# Altium schematic symbol library Soldeerbout.SCHLIB: 27 symbols
Pins are listed as number, name and electrical type; pins without a type are passive.

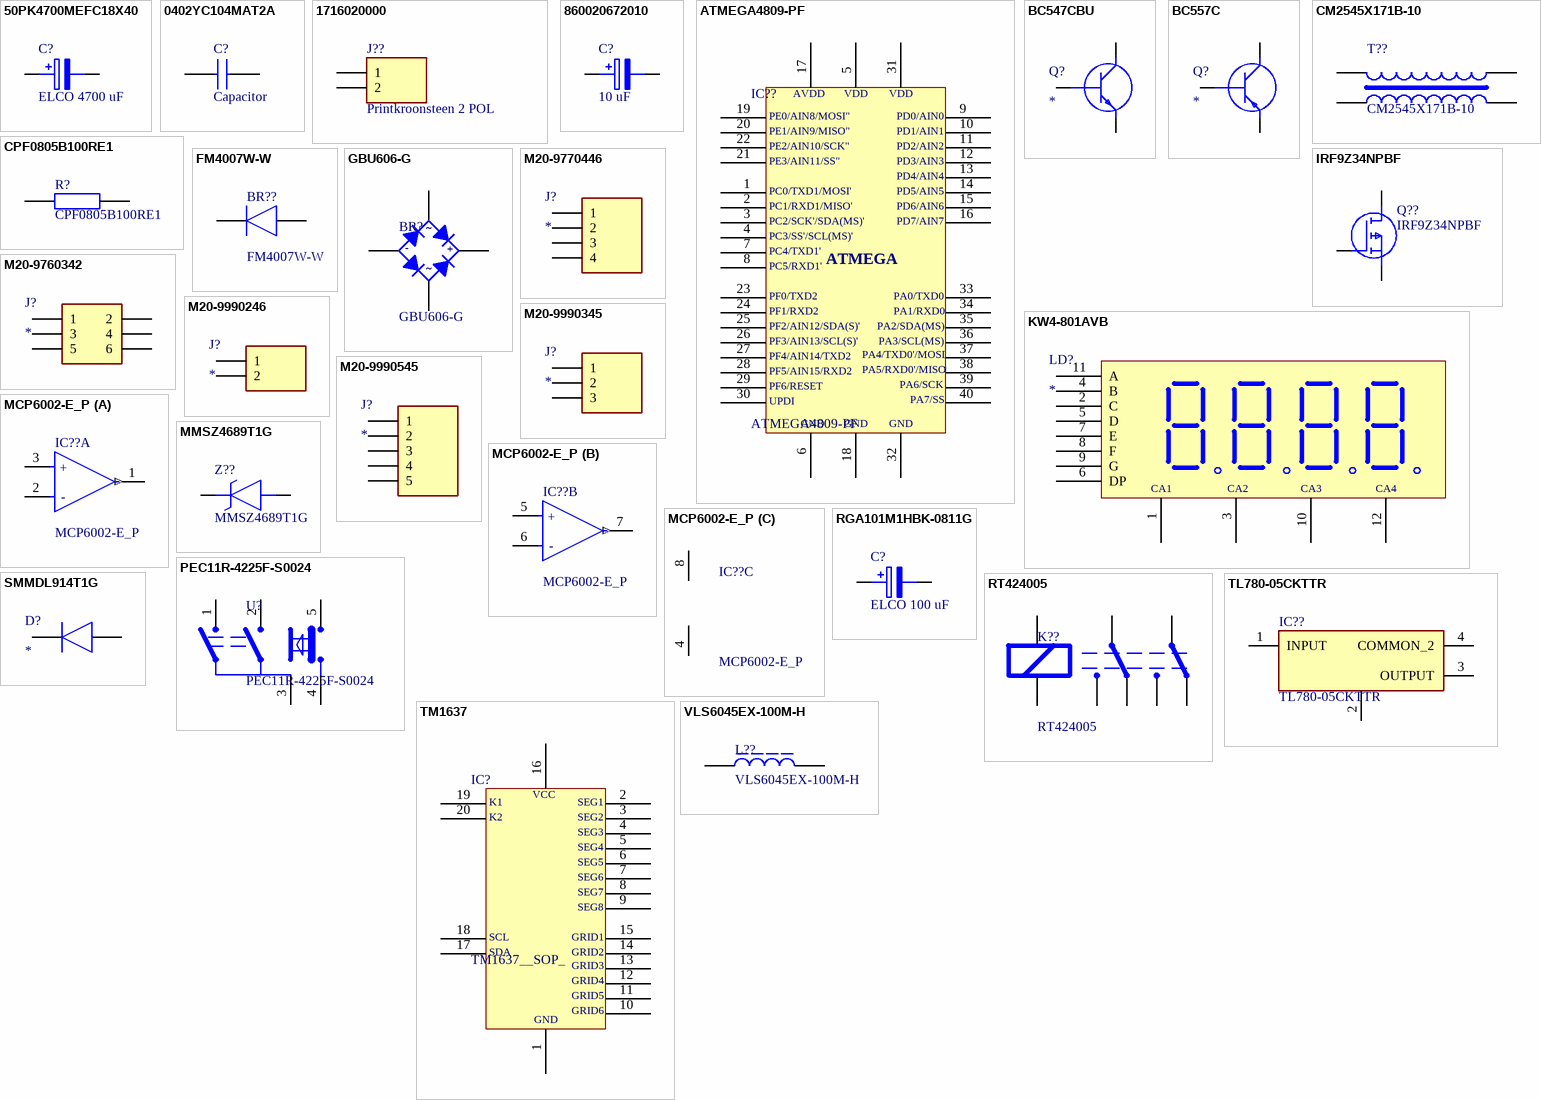
[diagram p0: symbols 50PK4700MEFC18X40 to VLS6045EX-100M-H]

## 50PK4700MEFC18X40
designator C?, comment ELCO 4700 uF
Manufacturer_Name: Rubycon; Manufacturer_Part_Number: 50PK4700MEFC18X40; Datasheet Link: http://www.rubycon.co.jp/en/catalog/e_pdfs/aluminum/e_pk.pdf; Height: 41.5mm; Mouser Part Number: 232-50PK4700MEFC18X4; Mouser Price/Stock: https://www.mouser.co.uk/ProductDetail/Rubycon/50PK4700MEFC18X40?qs=T3oQrply3y8fu7oTpkJ7DA%3D%3D; Arrow Part Number: 50PK4700MEFC18X40; Arrow Price/Stock: https://www.arrow.com/en/products/50pk4700mefc18x40/rubycon
footprint CAPPRD750W80D1850H4150
pins: 1 +, 2 -

## 0402YC104MAT2A
designator C?, comment Capacitor
Capacitor SMD 0805; Manufacturer_Name: AVX; Manufacturer_Part_Number: 0402YC104MAT2A; Datasheet Link: http://www.mouser.com/catalog/supplier/library/pdf/AVXSurfaceMountCeramic.pdf; Height: 0.56mm; Mouser Part Number: 581-0402YC104MAT2A; Mouser Price/Stock: https://www.mouser.co.uk/ProductDetail/AVX/0402YC104MAT2A?qs=O2%2FeDh0sX9yiCaLwpXy1bw%3D%3D
footprint CAPC1005X56N
pins: 1, 2

## 1716020000
designator J??, comment Printkroonsteen 2 POL
Manufacturer_Name: Weidmuller; Manufacturer_Part_Number: 1716020000; Datasheet Link: https://catalog.weidmueller.com/catalog/Start.do?ObjectID=1716020000&_ga=2.21797499.1716783809.1613378202-511725545.1613378202; Mouser Part Number: 470-1716020000; Mouser Price/Stock: https://www.mouser.co.uk/ProductDetail/Weidmuller/1716020000?qs=WJDKaGZ8K%252B7GSEFQgvMjVA%3D%3D
footprint 1716020000
pins: 1, 2

## 860020672010
designator C?, comment 10 uF
ELCO 10 uF; Manufacturer_Name: Wurth Elektronik; Manufacturer_Part_Number: 860020672010; Datasheet Link: https://katalog.we-online.de/pbs/datasheet/860020672010.pdf; Height: 12.5mm; Mouser Part Number: 710-860020672010; Mouser Price/Stock: https://www.mouser.co.uk/ProductDetail/Wurth-Elektronik/860020672010?qs=0KOYDY2FL2%252BaHkqkc1q4lw%3D%3D
footprint CAPPRD200W52D500H1250
pins: 1 +, 2 -

## ATMEGA4809-PF
designator IC??
8-bit MCU; Manufacturer_Name: Microchip; Datasheet Link: http://ww1.microchip.com/downloads/en/DeviceDoc/40-pin-Data-Sheet-megaAVR-0-series-DS40002104A.pdf; Height: 6.35mm; Manufacturer_Part_Number: ATMEGA4809-PF; Mouser Part Number: 556-ATMEGA4809-PF; Mouser Price/Stock: https://www.mouser.co.uk/ProductDetail/Microchip-Technology-Atmel/ATMEGA4809-PF?qs=T3oQrply3y9UlpZbCygk%252BQ%3D%3D
footprint DIP1543W58P254L5175H635Q40N
pins: 1 zdzdz, 2, 3, 4, 5, 6, 7, 8, 9, 10, 11, 12, 13, 14, 15, 16, 17, 18, 19, 20, 21, 22, 23, 24, 25, 26, 27, 28, 29, 30, 31, 32, 33, 34, 35, 36, 37, 38, 39, 40
text: AVDD; VDD; PE0/AIN8/MOSI"; PD0/AIN0; PE1/AIN9/MISO"; PD1/AIN1; PE2/AIN10/SCK"; PD2/AIN2; PE3/AIN11/SS"; PD3/AIN3; PD4/AIN4; PC0/TXD1/MOSI'; PD5/AIN5; PC1/RXD1/MISO'; PD6/AIN6; PC2/SCK'/SDA(MS)'; PD7/AIN7; PC3/SS'/SCL(MS)'; PC4/TXD1'; ATMEGA; PC5/RXD1'; PF0/TXD2; PA0/TXD0; PF1/RXD2; PA1/RXD0; PF2/AIN12/SDA(S)'; PA2/SDA(MS); PF3/AIN13/SCL(S)'; PA3/SCL(MS); PF4/AIN14/TXD2; PA4/TXD0'/MOSI; PF5/AIN15/RXD2; PA5/RXD0'/MISO; PF6/RESET; PA6/SCK; UPDI; PA7/SS; GND

## BC547CBU
designator Q?
Transistor BJT NPN; Manufacturer_Name: ON Semiconductor; Manufacturer_Part_Number: BC547CBU; Datasheet Link: https://www.onsemi.com/pdf/datasheet/bc550-d.pdf; Height: 5.33mm; Mouser Part Number: 512-BC547CBU; Mouser Price/Stock: https://www.mouser.co.uk/ProductDetail/ON-Semiconductor-Fairchild/BC547CBU/?qs=SpPkH8nd0tbX52Pj0mX5Aw%3D%3D; Arrow Part Number: BC547CBU; Arrow Price/Stock: https://www.arrow.com/en/products/bc547cbu/on-semiconductor?region=nac
footprint BC547CBU
pins: 1 C, 2 B, 3 E

## BC557C
designator Q?
Transistor BJT PNP; Manufacturer_Name: NXP; Manufacturer_Part_Number: BC557C; Datasheet Link: http://uk.rs-online.com/web/p/products/1124775; Height: 5.2mm; Mouser Part Number: 771-BC557C; Mouser Price/Stock: https://www.mouser.co.uk/ProductDetail/NXP-Semiconductors/BC557C?qs=84A%2FDAdkstLO1yR4NjQrgg%3D%3D
footprint BC557C
pins: 1 E, 2 B, 3 C

## CM2545X171B-10
designator T??
Common mode smoorspoel 10A; Manufacturer_Name: Laird Technologies; Datasheet Link: https://datasheet.datasheetarchive.com/originals/dk/DKDS-7/122753.pdf; Height: 9.5mm; Manufacturer_Part_Number: CM2545X171B-10; Mouser Part Number: N/A; Mouser Price/Stock: https://www.mouser.co.uk/ProductDetail/Laird/CM2545X171B-10?qs=PzGy0jfpSMtNfkEypgU65A%3D%3D; Arrow Part Number: CM2545X171B-10; Arrow Price/Stock: https://www.arrow.com/en/products/cm2545x171b-10/laird-technologies
footprint CM2545X171B10
pins: 1 PRI+, 2 SEC+, 3 SEC-, 4 PRI-

## CPF0805B100RE1
designator R?
Resistor SMD 0805; Manufacturer_Name: TE Connectivity; Datasheet Link: https://datasheet.datasheetarchive.com/originals/distributors/DKDS-21/401696.pdf; Height: 0.65mm; Manufacturer_Part_Number: CPF0805B100RE1; Mouser Part Number: 279-CPF0805B100RE1; Mouser Price/Stock: https://www.mouser.co.uk/ProductDetail/TE-Connectivity-Holsworthy/CPF0805B100RE1?qs=9ylKvqdyudkCWLPT1QvLZQ%3D%3D; Arrow Part Number: CPF0805B100RE1; Arrow Price/Stock: https://www.arrow.com/en/products/cpf0805b100re1/te-connectivity?region=nac
footprint RESC2012X65N
pins: 1, 2

## FM4007W-W
designator BR??
Diode 1000V 1A; Manufacturer_Name: Rectron; Datasheet Link: http://www.rectron.com/data_sheets/fm4001w-fm4007w.pdf; Height: 2.31mm; Manufacturer_Part_Number: FM4007W-W; Mouser Part Number: 583-FM4007W-W; Mouser Price/Stock: https://www.mouser.co.uk/ProductDetail/Rectron/FM4007W-W?qs=jY2200qj%252BWCBLCSrfIQtJA%3D%3D; Arrow Part Number: FM4007W-W; Arrow Price/Stock: https://www.arrow.com/en/products/fm4007w-w/rectron?region=nac
footprint DIOM5025X231N
pins: 1 K, 2 A

## GBU606-G
designator BR?
Bridge Rectifier; Manufacturer_Name: Comchip Technology; Datasheet Link: https://www.comchiptech.com/product.php?id=2217; Height: 20.95mm; Manufacturer_Part_Number: GBU606-G; Mouser Part Number: 750-GBU606-G; Mouser Price/Stock: https://www.mouser.co.uk/ProductDetail/Comchip-Technology/GBU606-G?qs=XEIV%2Fho1H6d1WplLbEJ0gw%3D%3D; Arrow Part Number: GBU606-G; Arrow Price/Stock: https://www.arrow.com/en/products/gbu606-g/comchip-technology?region=nac
footprint GBU606G
pins: 1 +, 2 ~, 3 ~, 4 -

## IRF9Z34NPBF
designator Q??
MOSFET (P-Channel); Manufacturer_Name: Infineon; Datasheet Link: https://www.infineon.com/dgdl/irf9z34npbf.pdf?fileId=5546d462533600a40153561220af1ddd; Height: 4.69mm; Manufacturer_Part_Number: IRF9Z34NPBF; Mouser Part Number: 942-IRF9Z34NPBF; Mouser Price/Stock: https://www.mouser.co.uk/ProductDetail/Infineon-IR/IRF9Z34NPBF?qs=9%252BKlkBgLFf16a%2FvlD%252BMCtQ%3D%3D; Arrow Part Number: IRF9Z34NPBF; Arrow Price/Stock: https://www.arrow.com/en/products/irf9z34npbf/infineon-technologies-ag?region=nac
footprint TO254P469X1042X1967-3P
pins: 1 G, 2 S, 3 D

## KW4-801AVB
designator LD?
4-Digit LED Display
footprint KW4-801AVB-FP
pins: 1 CA1, 2 C, 3 13, 4 B, 5 D, 6 DP, 7 E, 8 F, 9 G, 10 14, 11 A, 12 15
text: CA2; CA3; CA4

## M20-9760342
designator J?
2R 6P Connector; Manufacturer_Name: Harwin; Manufacturer_Part_Number: M20-9760342; Datasheet Link: https://cdn.harwin.com/pdfs/M20-976.pdf; Height: 8.3mm; Mouser Part Number: 855-M20-9760342; Mouser Price/Stock: https://www.mouser.co.uk/ProductDetail/Harwin/M20-9760342/?qs=%252Bk6%2F5FB6qrkaVmYIHZO6zg%3D%3D
footprint HDRV6W66P254_2X3_762X508X830P
pins: 1, 2, 3, 4, 5, 6

## M20-9770446
designator J?
1R 4P Connector; Manufacturer_Name: Harwin; Manufacturer_Part_Number: M20-9770446; Datasheet Link: https://componentsearchengine.com/Datasheets/1/M20-9770446.pdf; Height: 8.34mm; Mouser Part Number: 855-M20-9770446; Mouser Price/Stock: https://www.mouser.co.uk/ProductDetail/Harwin/M20-9770446?qs=ulE8k0yEMYbCPpMPHeYh4w%3D%3D
footprint HDRV4W64P0X254_1X4_1016X254X834P
pins: 1, 2, 3, 4

## M20-9990246
designator J?
1R 2P Connector; Manufacturer_Name: Harwin; Manufacturer_Part_Number: M20-9990246; Datasheet Link: https://cdn.harwin.com/pdfs/M20-999.pdf; Height: 8.74mm; Mouser Part Number: 855-M20-9990246; Mouser Price/Stock: https://www.mouser.co.uk/ProductDetail/Harwin/M20-9990246?qs=Jph8NoUxIfWjw4WmyRvzag%3D%3D
footprint HDRV2W66P0X254_1X2_508X254X874P
pins: 1, 2

## M20-9990345
designator J?
1R 3P Connector; Manufacturer_Name: Harwin; Manufacturer_Part_Number: M20-9990345; Datasheet Link: https://cdn.harwin.com/pdfs/M20-999.pdf; Height: 8.64mm; Mouser Part Number: 855-M20-9990345; Mouser Price/Stock: https://www.mouser.co.uk/ProductDetail/Harwin/M20-9990345?qs=ulE8k0yEMYbl6ZPCtNdmpA%3D%3D
footprint HDRV3W64P0X254_1X3_762X254X864P
pins: 1, 2, 3

## M20-9990545
designator J?
1R 5P Connector; Manufacturer_Name: Harwin; Manufacturer_Part_Number: M20-9990545; Datasheet Link: https://componentsearchengine.com/Datasheets/2/M20-9990545.pdf; Height: 8.64mm; Mouser Part Number: 855-M20-9990545; Mouser Price/Stock: https://www.mouser.co.uk/ProductDetail/Harwin/M20-9990545?qs=ulE8k0yEMYY1AaFSSzjXzw%3D%3D
footprint HDRV5W64P0X254_1X5_1270X254X864P
pins: 1, 2, 3, 4, 5

## MCP6002-E_P
designator IC??
Dual OPAMP; Manufacturer_Name: Microchip; Manufacturer_Part_Number: MCP6002-E/P; Datasheet Link: http://componentsearchengine.com/Datasheets/3/MCP6002-E_P.pdf; Height: 5.334mm; Mouser Part Number: 579-MCP6002-E/P; Mouser Price/Stock: https://www.mouser.co.uk/ProductDetail/Microchip-Technology/MCP6002-E-P?qs=hul3WK2zl4pqRWzdnAsu%2FQ%3D%3D; Arrow Part Number: MCP6002-E/P; Arrow Price/Stock: https://www.arrow.com/en/products/mcp6002-ep/microchip-technology?region=nac
footprint DIP781W56P254L950H533Q8N
part A pins: 1 1OUT (out), 2 1IN- (hiz), 3 1IN+ (hiz)
part B pins: 5 1IN+ (hiz), 6 1IN- (hiz), 7 OUT (out)
part C pins: 4 VSS (power), 8 VDD
part A text: +; -
part B text: +; -

## MMSZ4689T1G
designator Z??
Zener Diode; Manufacturer_Name: ON Semiconductor; Datasheet Link: http://www.onsemi.com/pub/Collateral/MMSZ4678T1-D.PDF; Height: 1.35mm; Manufacturer_Part_Number: MMSZ4689T1G; Mouser Part Number: 863-MMSZ4689T1G; Mouser Price/Stock: https://www.mouser.co.uk/ProductDetail/ON-Semiconductor/MMSZ4689T1G/?qs=P4IOph%252Bbot%252Blaz%2FZtdyBaA%3D%3D; Arrow Part Number: MMSZ4689T1G; Arrow Price/Stock: https://www.arrow.com/en/products/mmsz4689t1g/on-semiconductor
footprint SOD3716X135N
pins: 1 K, 2 A

## PEC11R-4225F-S0024
designator U?
Rotary Button; Manufacturer_Name: Bourns; Datasheet Link: https://componentsearchengine.com/Datasheets/1/PEC11R-4225F-S0024.pdf; Manufacturer_Part_Number: PEC11R-4225F-S0024; Mouser Part Number: 652-PEC11R-4225F-S24; Mouser Price/Stock: https://www.mouser.co.uk/ProductDetail/Bourns/PEC11R-4225F-S0024?qs=Zq5ylnUbLm4N6UNkPX3pkQ%3D%3D; Arrow Part Number: PEC11R-4225F-S0024; Arrow Price/Stock: https://www.arrow.com/en/products/pec11r-4225f-s0024/bourns?region=nac
footprint PEC12R-4XXXF-SXXXX_1
pins: 1, 2, 3, 4, 5     

## RGA101M1HBK-0811G
designator C?, comment ELCO 100 uF
Manufacturer_Name: Lelon; Manufacturer_Part_Number: RGA101M1HBK-0811G; Datasheet Link: https://www.arrow.com/en/products/rga101m1hbk-0811g/lelon-electronics; Height: 13mm; Mouser Part Number: 140-RGA101M1HBK0811G; Mouser Price/Stock: https://www.mouser.co.uk/ProductDetail/Lelon/RGA101M1HBK-0811G?qs=pNDdEcSXiOBNivHdElCSJA%3D%3D; Arrow Part Number: RGA101M1HBK-0811G; Arrow Price/Stock: https://www.arrow.com/en/products/rga101m1hbk-0811g/lelon-electronics
footprint CAPPRD350W60D825H1300
pins: 1 +, 2 -

## RT424005
designator K??
Contactor; Manufacturer_Name: TE Connectivity; Datasheet Link: https://www.te.com/commerce/DocumentDelivery/DDEController?Action=showdoc&DocId=Data+Sheet%7FRT2%7F1014%7Fpdf%7FEnglish%7FENG_DS_RT2_1014.pdf%7F5-1393243-9; Manufacturer_Part_Number: RT424005; Mouser Part Number: 655-RT424005; Mouser Price/Stock: https://www.mouser.co.uk/ProductDetail/TE-Connectivity-Schrack/RT424005?qs=KKrrU%252BaSadKRsQcVuAjnsQ%3D%3D; Arrow Part Number: RT424005; Arrow Price/Stock: https://www.arrow.com/en/products/rt424005/te-connectivity?region=nac
footprint RT42
pins: 1 A1_COIL, 2 12_NC, 3 11_COM, 4 14_NO, 5 24_NO, 6 21_COM, 7 22_NC, 8 A2_COIL

## SMMDL914T1G
designator D?
Diode 100V 200mA 4ns; Manufacturer_Name: ON Semiconductor; Manufacturer_Part_Number: SMMDL914T1G; Datasheet Link: https://www.onsemi.com/pub/Collateral/MMDL914T1-D.PDF; Height: 1.1mm; Mouser Part Number: 863-SMMDL914T1G; Mouser Price/Stock: https://www.mouser.co.uk/ProductDetail/onsemi/SMMDL914T1G?qs=3PKVEWFFm2%252B2VboGvGtVUg%3D%3D; Arrow Part Number: SMMDL914T1G; Arrow Price/Stock: https://www.arrow.com/en/products/smmdl914t1g/on-semiconductor
footprint SOD2512X110N (Footprint not found)
pins: 1 K, 2 A

## TL780-05CKTTR
designator IC??
Voltage Regulator 5V; Manufacturer_Name: Texas Instruments; Datasheet Link: http://www.ti.com/general/docs/suppproductinfo.tsp?distId=26&gotoUrl=http%3A%2F%2Fwww.ti.com%2Flit%2Fgpn%2Ftl780; Height: 5.08mm; Manufacturer_Part_Number: TL780-05CKTTR; Mouser Part Number: 595-TL780-05CKTTR; Mouser Price/Stock: https://www.mouser.co.uk/ProductDetail/Texas-Instruments/TL780-05CKTTR?qs=7kv20MEVUlhtPP21hgiOlA%3D%3D; Arrow Part Number: TL780-05CKTTR; Arrow Price/Stock: https://www.arrow.com/en/products/tl780-05ckttr/texas-instruments?region=nac
footprint TL78005CKTTR
pins: 1 INPUT, 2 COMMON_1, 3 OUTPUT, 4 COMMON_2

## TM1637
designator IC?, comment TM1637__SOP_
Driver LED Display; Manufacturer_Name: TITAN MICRO ELECTRONICS; Manufacturer_Part_Number: TM1637 (SOP); Datasheet Link: https://www.mcielectronics.cl/website_MCI/static/documents/Datasheet_TM1637.pdf; Height: 2.8mm
footprint SOIC127P1045X280-20N
pins: 1, 2, 3, 4, 5, 6, 7, 8, 9, 10, 11, 12, 13, 14, 15, 16, 17, 18, 19, 20
text: VCC; K1; SEG1; K2; SEG2; SEG3; SEG4; SEG5; SEG6; SEG7; SEG8; SCL; GRID1; SDA; GRID2; GRID3; GRID4; GRID5; GRID6; GND

## VLS6045EX-100M-H
designator L??
Smoorspoel 10uH; Manufacturer_Name: TDK; Datasheet Link: https://product.tdk.com/system/files/dam/doc/product/inductor/inductor/smd/catalog/inductor_automotive_power_vls6045ex-h_en.pdf; Manufacturer_Part_Number: VLS6045EX-100M-H; Mouser Part Number: 810-VLS6045EX-100M-H; Mouser Price/Stock: https://www.mouser.co.uk/ProductDetail/TDK/VLS6045EX-100M-H?qs=qSfuJ%252Bfl%2Fd6r84tw2EUg2Q%3D%3D; Arrow Part Number: VLS6045EX-100M-H; Arrow Price/Stock: https://www.arrow.com/en/products/vls6045ex-100m-h/tdk?region=nac
footprint VLS6045
pins: 1, 2